# EAGLE library part KW4-563ASA (library KW4-563ASA)
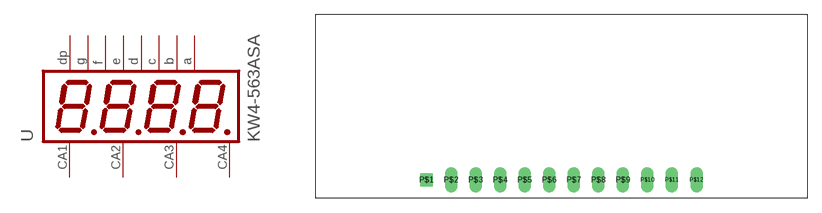
[diagram p0: symbol with the pads of NFD-5641; footprint NFD-5641]

Designator prefix -

## KW4-563ASA  [NFD-5641]
P$1  P$1
P$2  P$2
P$3  P$3
P$4  P$4
P$5  P$5
P$6  P$6
P$7  P$7
P$8  P$8
P$9  P$9
P$10  P$10
P$11  P$11
P$12  P$12

## Footprint NFD-5641 (pad centres in mm)
drill 0.8 square: P$1 -13.97,-7.62
drill 0.8 long: P$2 -11.43,-7.62; P$3 -8.89,-7.62; P$4 -6.35,-7.62; P$5 -3.81,-7.62; P$6 -1.27,-7.62; P$7 1.27,-7.62; P$8 3.81,-7.62; P$9 6.35,-7.62; P$10 8.89,-7.62; P$11 11.43,-7.62; P$12 13.97,-7.62